# Altium footprint library CAPC5651X218N.PcbLib: 1 footprints
Each footprint in its own frame and in the unit in brackets; x right, y up, seen from the top. Pads: shape width x height; smd on the part's side, far side on the other; paste and mask are expansions set on the pad; w line width, h text height; cw(c..) or ccw(c..) is an arc to the next point about the centre after c.
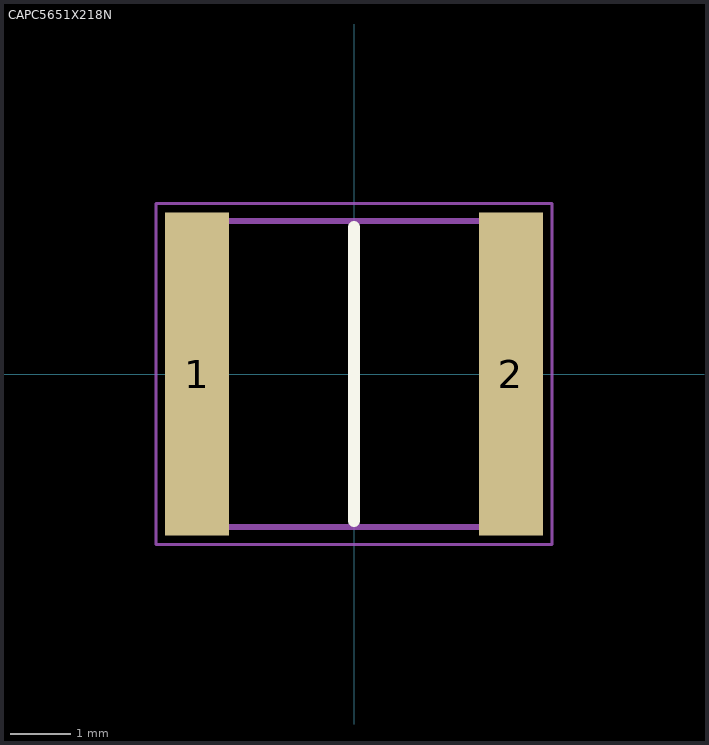
[diagram p0: the footprint, top view; thin cyan lines are the x and y axes]

## CAPC5651X218N [mm]
pads (2):
  rect 1.06x5.35 smd: 1(-2.6,0) 2(2.6,0)
Top Overlay:
  lines w0.2: 0,-2.44 0,2.44
Mechanical 15:
  lines w0.1: -2.795,-2.54 2.795,-2.54 2.795,2.54 -2.795,2.54 -2.795,-2.54
Mechanical 20:
  lines w0.05: -3.28,-2.83 3.28,-2.83 3.28,2.83 -3.28,2.83 -3.28,-2.83
3D body "VJ2220Y103KXUSTX2.stp": height 5.8, standoff -4.65, extent -10,-3.376 10,3.376